# Altium footprint library DFN-10-renesas.PcbLib: 1 footprints
Each footprint in its own frame and in the unit in brackets; x right, y up, seen from the top. Pads: shape width x height; smd on the part's side, far side on the other; paste and mask are expansions set on the pad; w line width, h text height; cw(c..) or ccw(c..) is an arc to the next point about the centre after c.
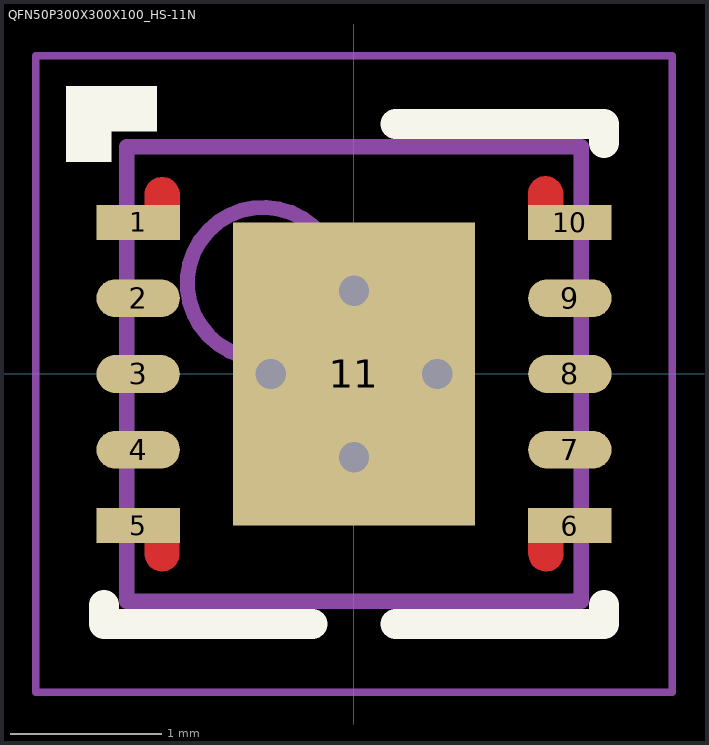
[diagram p0: the footprint, top view; thin cyan lines are the x and y axes]

## QFN50P300X300X100_HS-11N [mm] "QFN, 10-Leads, Body 3,00x3,00mm, Pitch 0,50mm, Thermal Pad 1,60x2,00mm, IPC Medium Density"
height 1
pads (11):
  rect 0.55x0.23 smd: 1(-1.425,1) 5(-1.425,-1) 6(1.425,-1) 10(1.425,1)
  oval 0.55x0.25 smd: 2(-1.425,0.5) 3(-1.425,0) 4(-1.425,-0.5) 7(1.425,-0.5) 8(1.425,0) 9(1.425,0.5)
  rect 1.6x2 smd: 11(0,0)
via 0,0.55 diameter 0.4 hole 0.2
via 0,-0.55 diameter 0.4 hole 0.2
via -0.55,0 diameter 0.4 hole 0.2
via 0.55,0 diameter 0.4 hole 0.2
Top Layer:
  region: -1.381,0.999 -1.381,1.185 -1.381,1.196 -1.377,1.219 -1.368,1.24 -1.355,1.258 -1.347,1.266 -1.34,1.274 -1.321,1.287 -1.3,1.296 -1.278,1.3 -1.267,1.3 -1.256,1.3 -1.234,1.296 -1.213,1.287 -1.195,1.275 -1.187,1.267 -1.179,1.259 -1.165,1.24 -1.156,1.218 -1.151,1.196 -1.151,1.184 -1.151,1.002 -1.151,0.99 -1.156,0.967 -1.165,0.946 -1.178,0.926 -1.186,0.918 -1.194,0.91 -1.212,0.898 -1.232,0.89 -1.254,0.885 -1.265,0.885 -1.275,0.885 -1.295,0.889 -1.314,0.896 -1.332,0.906 -1.34,0.913 -1.349,0.921 -1.364,0.941 -1.374,0.963 -1.38,0.987
  region: 1.15,1.004 1.15,1.19 1.15,1.202 1.154,1.224 1.163,1.245 1.175,1.264 1.183,1.272 1.191,1.28 1.21,1.292 1.23,1.301 1.252,1.305 1.264,1.305 1.275,1.305 1.297,1.301 1.317,1.293 1.336,1.28 1.344,1.273 1.352,1.264 1.365,1.245 1.375,1.224 1.379,1.201 1.38,1.189 1.38,1.007 1.38,0.996 1.375,0.973 1.366,0.951 1.353,0.931 1.345,0.923 1.337,0.915 1.319,0.903 1.299,0.895 1.277,0.891 1.266,0.891 1.256,0.891 1.236,0.894 1.217,0.901 1.199,0.911 1.191,0.918 1.182,0.926 1.167,0.946 1.156,0.968 1.15,0.992
  region: 1.152,-1.19 1.152,-1.003 1.152,-0.992 1.156,-0.97 1.165,-0.949 1.177,-0.93 1.185,-0.922 1.193,-0.914 1.212,-0.902 1.232,-0.893 1.254,-0.889 1.266,-0.889 1.277,-0.889 1.299,-0.893 1.319,-0.901 1.338,-0.914 1.346,-0.921 1.354,-0.93 1.367,-0.949 1.377,-0.97 1.381,-0.993 1.381,-1.005 1.381,-1.187 1.381,-1.198 1.377,-1.221 1.368,-1.243 1.355,-1.262 1.347,-1.271 1.339,-1.279 1.321,-1.291 1.301,-1.299 1.279,-1.303 1.268,-1.303 1.258,-1.303 1.238,-1.3 1.218,-1.293 1.201,-1.283 1.193,-1.276 1.184,-1.268 1.169,-1.248 1.158,-1.226 1.152,-1.202
  region: -1.382,-1.189 -1.382,-1.003 -1.382,-0.991 -1.378,-0.969 -1.369,-0.948 -1.357,-0.929 -1.349,-0.921 -1.341,-0.913 -1.322,-0.901 -1.302,-0.892 -1.28,-0.888 -1.268,-0.888 -1.257,-0.888 -1.235,-0.892 -1.215,-0.9 -1.196,-0.913 -1.188,-0.921 -1.18,-0.929 -1.167,-0.948 -1.157,-0.969 -1.153,-0.992 -1.152,-1.004 -1.152,-1.186 -1.152,-1.198 -1.157,-1.221 -1.166,-1.242 -1.179,-1.262 -1.187,-1.27 -1.195,-1.278 -1.213,-1.29 -1.233,-1.298 -1.255,-1.302 -1.266,-1.302 -1.276,-1.303 -1.296,-1.299 -1.316,-1.292 -1.333,-1.282 -1.341,-1.275 -1.35,-1.267 -1.365,-1.247 -1.376,-1.225 -1.382,-1.201
Top Overlay:
  rectangle: -1.9,1.6 -1.3,1.9
  rectangle: -1.9,1.4 -1.6,1.9
  lines w0.2: -1.65,-1.525 -1.65,-1.65 -0.275,-1.65 ; 0.275,-1.65 1.65,-1.65 1.65,-1.525 ; 0.275,1.65 1.65,1.65 1.65,1.525
Mechanical 13:
  circle w0.1: c-0.6,0.6 r0.5
  lines w0.1: -1.5,-1.5 -1.5,1.5 1.5,1.5 1.5,-1.5 -1.5,-1.5
Mechanical 15:
  lines w0.05: -2.1,-2.1 -2.1,2.1 2.1,2.1 2.1,-2.1 -2.1,-2.1
  lines w0.1: -0.5,0 0.5,0 ; 0,-0.5 0,0.5
3D body "User Library-DFN10-1.STEP": height 0.8, standoff 0, extent -1.509,-1.507 1.511,1.493